# EAGLE library part PTN09S2-H10120K1A (library PTN09S2-H10120K1A)
9.5 mm, Horizontal, Dual Section, Logarithmic, 10K, Through Hole, Knurled Shaft Rotary Potentiometer Source: Datasheet <https://www.sameskydevices.com/product/resource/ptn09sx.pdf>
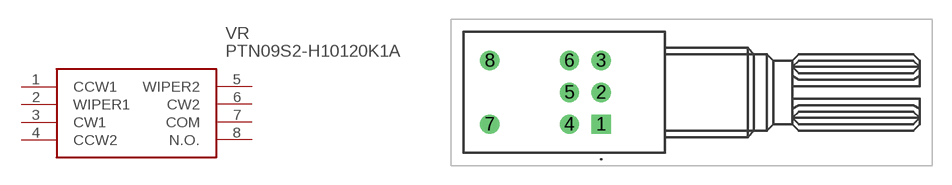
[diagram p0: symbol with the pads of PTN09S2H10120K1A; footprint PTN09S2H10120K1A]

Designator prefix VR

## PTN09S2-H10120K1A (Description: 9.5 mm, Horizontal, Dual Section, Logarithmic, 10K, Through Hole, Knurled Shaft Rotary Potentiometer; Height: 10.66mm; Manufacturer_Name: Same Sky; Manufacturer_Part_Number: PTN09S2-H10120K1A)  [PTN09S2H10120K1A]
1  CCW1
2  WIPER1
3  CW1
4  CCW2
5  WIPER2
6  CW2
7  COM
8  N.O.

## Footprint PTN09S2H10120K1A (pad centres in mm)
PTN09S2-H10120K1A-2
drill 1 pad 1.5 square: 1 0,0
drill 1 pad 1.5: 2 0,2.5; 3 0,5; 4 -2.5,0; 5 -2.5,2.5; 6 -2.5,5; 7 -8.75,0; 8 -8.75,5